# Altium footprint library DO-35.PcbLib: 1 footprints
Each footprint in its own frame and in the unit in brackets; x right, y up, seen from the top. Pads: shape width x height; smd on the part's side, far side on the other; paste and mask are expansions set on the pad; w line width, h text height; cw(c..) or ccw(c..) is an arc to the next point about the centre after c.
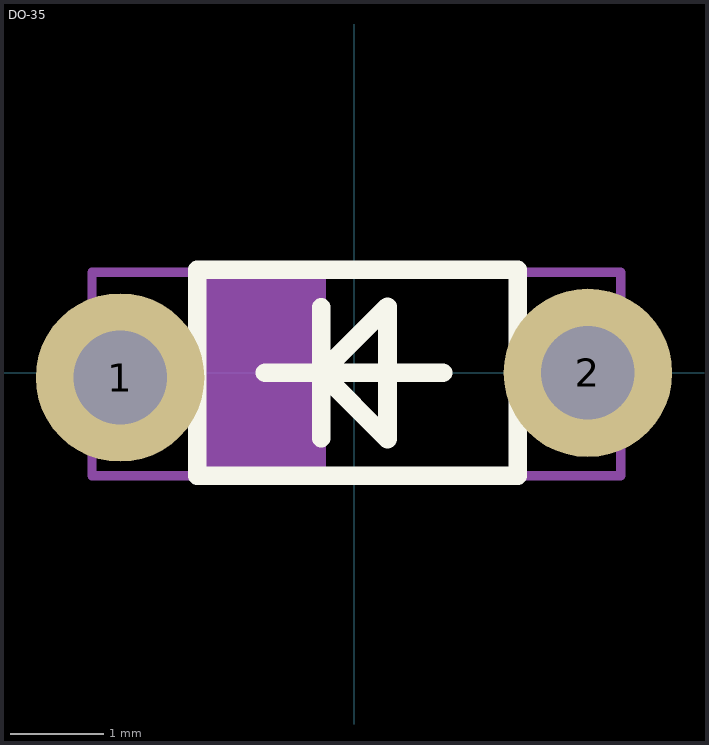
[diagram p0: the footprint, top view; thin cyan lines are the x and y axes]

## DO-35 [mm]
height 0.9
pads (2):
  round 1.8 hole 1: 1(-2.5,-0.05) 2(2.5,0)
Top Overlay:
  lines w0.2: -0.95,0 -0.35,0 ; -0.35,-0.7 -0.35,0 ; -0.35,0.7 -0.35,0 ; 0.95,0 -0.35,0 ; -0.35,0 0.357,0.707 0.357,-0.707 -0.35,0 ; -1.675,-1.1 1.75,-1.1 1.75,1.1 -1.675,1.1 -1.675,-1.1
Top Assembly:
  rectangle: -1.6,-1.125 -0.3,1.05
  lines w0.1: -2.8,-1.1 2.85,-1.1 2.85,-0.725 2.85,0.775 2.85,1.075 -2.8,1.075 -2.8,-1.1
  text "'.Designator'" at -0.95,-0.35 h0.7
3D body "User Library-DO-35G-20.STEP": height 1.82, standoff -2, extent -2.815,-0.901 2.815,0.901